# Altium integrated library Analog Devices Data Converters Digital-to-Analog Converters.IntLib: 2231 symbols (part 30 of 181)
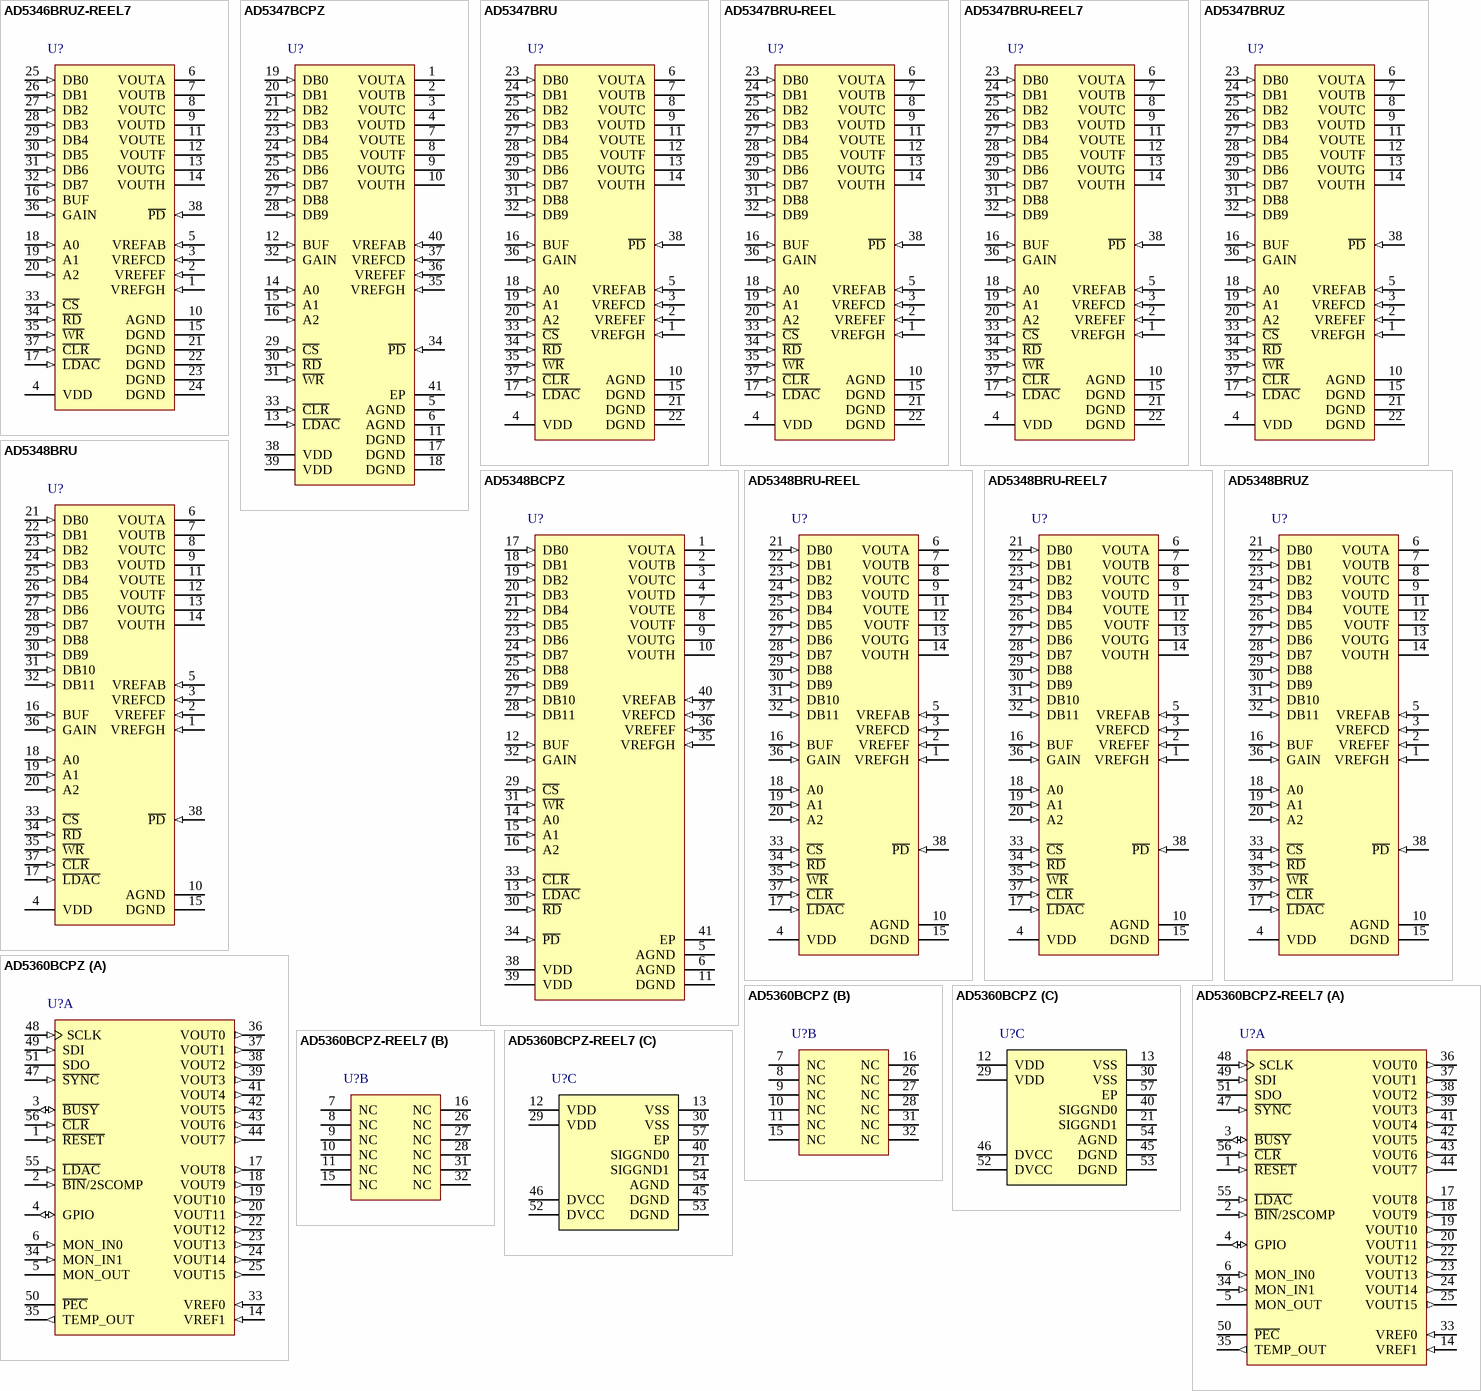
[diagram p143: symbols AD5346BRUZ-REEL7 to AD5360BCPZ-REEL7]

## AD5346BRUZ-REEL7
designator U?
Octal 8-Bit Voltage Output Digital-to-Analog Converter, 2.5 to 5.5 V, -40 to +105 degC, RU-38, Pb-Free, Reel; Generic Part Number: AD5346; Manufacturer: Analog Devices; PartNumber: AD5346BRUZ-REEL7; # DAC Outputs: 8; Max V+: 5.5V; Op Pwr Diss: 8.3mW; Settling Time: 6µs; Single Supply: Yes; DatasheetVersion: Rev.0; PackageVersion: Mar-2003; PackageReference: RU-38; PackageDescription: 38-Lead Thin Shrink Small Outline Package [TSSOP]; Supplier 1: Mouser; Supplier Part Number 1: N/A; Packing: Reel; Resolution (Bits): 8; RoHS: Y; Mounting Technology: Surface Mount; Code_JEDEC: MS-153BD-1; ComponentLink1Description: Manufacturer URL; ComponentLink1URL: http://www.analog.com/en/index.html; ComponentLink2Description: Datasheet; ComponentLink2URL: http://www.analog.com/static/imported-files/data_sheets/AD5346_5347_5348.pdf; ComponentLink3Description: Package Specification; ComponentLink3URL: http://www.analog.com/static/imported-files/packages/36817415413609854197792024125RU38.pdf; ComponentLink4Description: Product URL; ComponentLink4URL: http://www.analog.com/en/digital-to-analog-converters/da-converters/ad5346/products/product.html
footprint RU-38_N (TSSOP, 38-Leads, Body 9.7x4.4mm, Pitch 0.5mm, IPC Medium Density)
footprint RU-38_L (TSSOP, 38-Leads, Body 9.7x4.4mm, Pitch 0.5mm, IPC High Density)
footprint RU-38_M (TSSOP, 38-Leads, Body 9.7x4.4mm, Pitch 0.5mm, IPC Low Density)
pins: 1 VREFGH (in) "Reference Input for DACs G and H.", 2 VREFEF (in) "Reference Input for DACs E and F.", 3 VREFCD (in) "Reference Input for DACs C and D.", 4 VDD (power) "Power Supply Pin(s). This part can operate from 2.5 V to 5.5 V, and the supply should be decoupled with a 10 uF capacitor in parallel with a 0.1 uF capacitor to GND.", 5 VREFAB (in) "Reference Input for DACs A and B.", 6 VOUTA (hiz) "Output of DAC A. Buffered output with rail-to-rail operation.", 7 VOUTB (hiz) "Output of DAC B. Buffered output with rail-to-rail operation.", 8 VOUTC (hiz) "Output of DAC C. Buffered output with rail-to-rail operation.", 9 VOUTD (hiz) "Output of DAC D. Buffered output with rail-to-rail operation.", 10 AGND (power) "Analog Ground. Ground reference for analog circuitry.", 11 VOUTE (hiz) "Output of DAC E. Buffered output with rail-to-rail operation.", 12 VOUTF (hiz) "Output of DAC F. Buffered output with rail-to-rail operation.", 13 VOUTG (hiz) "Output of DAC G. Buffered output with rail-to-rail operation.", 14 VOUTH (hiz) "Output of DAC H. Buffered output with rail-to-rail operation.", 15 DGND (power) "Digital Ground. Ground reference for digital circuitry.", 16 BUF (in) "Buffer Control Pin. Controls whether the reference input to the DAC is buffered or unbuffered.", 17 ~{LDAC} (in) "Active Low Control Input. Updates the DAC registers with the contents of the input registers, which allows all DAC outputs to be simultaneously updated.", 18 A0 (in) "LSB Address Pin. Selects which DAC is to be written to.", 19 A1 (in) "Address Pin. Selects which DAC is to be written to.", 20 A2 (in) "MSB Address Pin. Selects which DAC is to be written to.", 21 DGND (power) "Digital Ground. Ground reference for digital circuitry.", 22 DGND (power) "Digital Ground. Ground reference for digital circuitry.", 23 DGND (power) "Digital Ground. Ground reference for digital circuitry.", 24 DGND (power) "Digital Ground. Ground reference for digital circuitry.", 25 DB0 (in) "Eight Parallel Data Inputs.", 26 DB1 (in) "Eight Parallel Data Inputs.", 27 DB2 (in) "Eight Parallel Data Inputs.", 28 DB3 (in) "Eight Parallel Data Inputs.", 29 DB4 (in) "Eight Parallel Data Inputs.", 30 DB5 (in) "Eight Parallel Data Inputs.", 31 DB6 (in) "Eight Parallel Data Inputs.", 32 DB7 (in) "Eight Parallel Data Inputs. DB7 is the MSB of these eight bits.", 33 ~{CS} (in) "Active Low Chip Select Input. Used in conjunction with W\R\ to write data to the parallel interface, or with R\D\ to read back data from a DAC.", 34 ~{RD} (in) "Active Low Read Input. Used in conjunction with C\S\ to read data back from the internal DACs.", 35 ~{WR} (in) "Active Low Write Input. Used in conjunction with C\S\ to write data to the parallel interface.", 36 GAIN (in) "Gain Control Pin. Controls whether the output range from the DAC is 0 V to VREF or 0 V to 2 x VREF.", 37 ~{CLR} (in) "Asynchronous Active Low Control Input. Clears all input registers and DAC registers to zeros.", 38 ~{PD} (in) "Power-Down Pin. This active low control pin puts all DACs into power-down mode."

## AD5347BCPZ
designator U?
Octal 10-Bit Voltage Output Digital-to-Analog Converter, 2.5 to 5.5 V, -40 to +105 degC, CP-40-1, Pb-Free, Tray; Generic Part Number: AD5347; Manufacturer: Analog Devices; PartNumber: AD5347BCPZ; # DAC Outputs: 8; Max V+: 5.5V; Op Pwr Diss: 8.3mW; Resolution (Bits): 10; Settling Time: 7µs; Single Supply: Yes; DatasheetVersion: Rev.0; PackageVersion: Oct-2006; PackageReference: CP-40-1; PackageDescription: 40-Pin Lead Frame Chip Scale Package [LFCSP_VQ] Very Thin Quad; Supplier 1: Digi-Key; Supplier Part Number 1: AD5347BCPZ-ND; Supplier 2: Mouser; Supplier Part Number 2: 584-AD5347BCPZ; Packing: Tray; RoHS: Y; Mounting Technology: Surface Mount; Code_JEDEC: MO-220-VJJD-2; ComponentLink1Description: Manufacturer URL; ComponentLink1URL: http://www.analog.com/en/index.html; ComponentLink2Description: Datasheet; ComponentLink2URL: http://www.analog.com/static/imported-files/data_sheets/AD5346_5347_5348.pdf; ComponentLink3Description: Package Specification; ComponentLink3URL: http://www.analog.com/static/imported-files/packages/PKG_PDF/LFCSP(CP)/CP_40_1.pdf; ComponentLink4Description: Product URL; ComponentLink4URL: http://www.analog.com/en/digital-to-analog-converters/da-converters/ad5347/products/product.html
footprint CP-40-1_N (QFN, 40-Leads, Body 6x6mm, Pitch 0.5mm, Thermal Pad 4.3x4.3mm, IPC Medium Density)
footprint CP-40-1_L (QFN, 40-Leads, Body 6x6mm, Pitch 0.5mm, Thermal Pad 4.3x4.3mm, IPC High Density)
footprint CP-40-1_M (QFN, 40-Leads, Body 6x6mm, Pitch 0.5mm, Thermal Pad 4.3x4.3mm, IPC Low Density)
pins: 1 VOUTA (hiz) "Output of DAC A. Buffered output with rail-to-rail operation.", 2 VOUTB (hiz) "Output of DAC B. Buffered output with rail-to-rail operation.", 3 VOUTC (hiz) "Output of DAC C. Buffered output with rail-to-rail operation.", 4 VOUTD (hiz) "Output of DAC D. Buffered output with rail-to-rail operation.", 5 AGND (power) "Analog Ground. Ground reference for analog circuitry.", 6 AGND (power) "Analog Ground. Ground reference for analog circuitry.", 7 VOUTE (hiz) "Output of DAC E. Buffered output with rail-to-rail operation.", 8 VOUTF (hiz) "Output of DAC F. Buffered output with rail-to-rail operation.", 9 VOUTG (hiz) "Output of DAC G. Buffered output with rail-to-rail operation.", 10 VOUTH (hiz) "Output of DAC H. Buffered output with rail-to-rail operation.", 11 DGND (power) "Digital Ground. Ground reference for digital circuitry.", 12 BUF (in) "Buffer Control Pin. Controls whether the reference input to the DAC is buffered or unbuffered.", 13 ~{LDAC} (in) "Active Low Control Input. Updates the DAC registers with the contents of the input registers, which allows all DAC outputs to be simultaneously updated.", 14 A0 (in) "LSB Address Pin. Selects which DAC is to be written to.", 15 A1 (in) "Address Pin. Selects which DAC is to be written to.", 16 A2 (in) "MSB Address Pin. Selects which DAC is to be written to.", 17 DGND (power) "Digital Ground. Ground reference for digital circuitry.", 18 DGND (power) "Digital Ground. Ground reference for digital circuitry.", 19 DB0 (in) "Parallel Data Input.", 20 DB1 (in) "Parallel Data Input.", 21 DB2 (in) "Parallel Data Input.", 22 DB3 (in) "Parallel Data Input.", 23 DB4 (in) "Parallel Data Input.", 24 DB5 (in) "Parallel Data Input.", 25 DB6 (in) "Parallel Data Input.", 26 DB7 (in) "Parallel Data Input.", 27 DB8 (in) "Parallel Data Input.", 28 DB9 (in) "Parallel Data Inputs. DB9 Is the MSB of these ten bits.", 29 ~{CS} (in) "Active Low Chip Select Input. Used in conjunction with W\R\ to write data to the parallel interface, or with R\D\ to read back data from a DAC.", 30 ~{RD} (in) "Active Low Read Input. Used in conjunction with C\S\ to read data back from the internal DACs.", 31 ~{WR} (in) "Active Low Write Input. Used in conjunction with C\S\ to write data to the parallel interface.", 32 GAIN (in) "Gain Control Pin. Controls whether the output range from the DAC is 0 V to VREF or 0 V to 2 x VREF.", 33 ~{CLR} (in) "Asynchronous Active Low Control Input. Clears all input registers and DAC registers to zeros.", 34 ~{PD} (in) "Power-Down Pin. This active low control pin puts all DACs into power-down mode.", 35 VREFGH (in) "Reference Input for DACs G and H.", 36 VREFEF (in) "Reference Input for DACs E and F.", 37 VREFCD (in) "Reference Input for DACs C and D.", 38 VDD (power) "Power Supply Pin. This part can operate from 2.5 V to 5.5 V, and the supply should be decoupled with a 10 uF capacitor in parallel with a 0.1 uF capacitor to GND. Both VDD pins on the LFCSP package must be at the same (See Datasheet)", 39 VDD (power) "Power Supply Pin. This part can operate from 2.5 V to 5.5 V, and the supply should be decoupled with a 10 uF capacitor in parallel with a 0.1 uF capacitor to GND. Both VDD pins on the LFCSP package must be at the same (See Datasheet)", 40 VREFAB (in) "Reference Input for DACs A and B.", 41 EP "Exposed Pad"

## AD5347BRU
designator U?
Octal 10-Bit Voltage Output Digital-to-Analog Converter, 2.5 to 5.5 V, -40 to +105 degC, RU-38, Tube; Generic Part Number: AD5347; Manufacturer: Analog Devices; PartNumber: AD5347BRU; # DAC Outputs: 8; Max V+: 5.5V; Op Pwr Diss: 8.3mW; Resolution (Bits): 10; Settling Time: 7µs; Single Supply: Yes; DatasheetVersion: Rev.0; PackageVersion: Mar-2003; PackageReference: RU-38; PackageDescription: 38-Lead Thin Shrink Small Outline Package [TSSOP]; Supplier 1: Digi-Key; Supplier Part Number 1: AD5347BRU-ND; Supplier 2: Mouser; Supplier Part Number 2: 584-AD5347BRU; Packing: Tube; RoHS: N; Mounting Technology: Surface Mount; Code_JEDEC: MS-153BD-1; ComponentLink1Description: Manufacturer URL; ComponentLink1URL: http://www.analog.com/en/index.html; ComponentLink2Description: Datasheet; ComponentLink2URL: http://www.analog.com/static/imported-files/data_sheets/AD5346_5347_5348.pdf; ComponentLink3Description: Package Specification; ComponentLink3URL: http://www.analog.com/static/imported-files/packages/36817415413609854197792024125RU38.pdf; ComponentLink4Description: Product URL; ComponentLink4URL: http://www.analog.com/en/digital-to-analog-converters/da-converters/ad5347/products/product.html
footprint RU-38_N (TSSOP, 38-Leads, Body 9.7x4.4mm, Pitch 0.5mm, IPC Medium Density)
footprint RU-38_L (TSSOP, 38-Leads, Body 9.7x4.4mm, Pitch 0.5mm, IPC High Density)
footprint RU-38_M (TSSOP, 38-Leads, Body 9.7x4.4mm, Pitch 0.5mm, IPC Low Density)
pins: 1 VREFGH (in) "Reference Input for DACs G and H.", 2 VREFEF (in) "Reference Input for DACs E and F.", 3 VREFCD (in) "Reference Input for DACs C and D.", 4 VDD (power) "Power Supply Pin(s). This part can operate from 2.5 V to 5.5 V, and the supply should be decoupled with a 10 uF capacitor in parallel with a 0.1 uF capacitor to GND. Both VDD pins on the LFCSP package must be at the same (See Datasheet)", 5 VREFAB (in) "Reference Input for DACs A and B.", 6 VOUTA (hiz) "Output of DAC A. Buffered output with rail-to-rail operation.", 7 VOUTB (hiz) "Output of DAC B. Buffered output with rail-to-rail operation.", 8 VOUTC (hiz) "Output of DAC C. Buffered output with rail-to-rail operation.", 9 VOUTD (hiz) "Output of DAC D. Buffered output with rail-to-rail operation.", 10 AGND (power) "Analog Ground. Ground reference for analog circuitry.", 11 VOUTE (hiz) "Output of DAC E. Buffered output with rail-to-rail operation.", 12 VOUTF (hiz) "Output of DAC F. Buffered output with rail-to-rail operation.", 13 VOUTG (hiz) "Output of DAC G. Buffered output with rail-to-rail operation.", 14 VOUTH (hiz) "Output of DAC H. Buffered output with rail-to-rail operation.", 15 DGND (power) "Digital Ground. Ground reference for digital circuitry.", 16 BUF (in) "Buffer Control Pin. Controls whether the reference input to the DAC is buffered or unbuffered.", 17 ~{LDAC} (in) "Active Low Control Input. Updates the DAC registers with the contents of the input registers, which allows all DAC outputs to be simultaneously updated.", 18 A0 (in) "LSB Address Pin. Selects which DAC is to be written to.", 19 A1 (in) "Address Pin. Selects which DAC is to be written to.", 20 A2 (in) "MSB Address Pin. Selects which DAC is to be written to.", 21 DGND (power) "Digital Ground. Ground reference for digital circuitry.", 22 DGND (power) "Digital Ground. Ground reference for digital circuitry.", 23 DB0 (in) "Parallel Data Input.", 24 DB1 (in) "Parallel Data Input.", 25 DB2 (in) "Parallel Data Input.", 26 DB3 (in) "Parallel Data Input.", 27 DB4 (in) "Parallel Data Input.", 28 DB5 (in) "Parallel Data Input.", 29 DB6 (in) "Parallel Data Input.", 30 DB7 (in) "Parallel Data Input.", 31 DB8 (in) "Parallel Data Input.", 32 DB9 (in) "Parallel Data Input. DB9 Is the MSB of these ten bits.", 33 ~{CS} (in) "Active Low Chip Select Input. Used in conjunction with W\R\ to write data to the parallel interface, or with R\D\ to read back data from a DAC.", 34 ~{RD} (in) "Active Low Read Input. Used in conjunction with C\S\to read data back from the internal DACs.", 35 ~{WR} (in) "Active Low Write Input. Used in conjunction with C\S\ to write data to the parallel interface.", 36 GAIN (in) "Gain Control Pin. Controls whether the output range from the DAC is 0 V to VREF or 0 V to 2 x VREF.", 37 ~{CLR} (in) "Asynchronous Active Low Control Input. Clears all input registers and DAC registers to zeros.", 38 ~{PD} (in) "Power-Down Pin. This active low control pin puts all DACs into power-down mode."

## AD5347BRU-REEL
designator U?
Octal 10-Bit Voltage Output Digital-to-Analog Converter, 2.5 to 5.5 V, -40 to +105 degC, RU-38, Reel; Generic Part Number: AD5347; Manufacturer: Analog Devices; PartNumber: AD5347BRU-REEL; # DAC Outputs: 8; Max V+: 5.5V; Op Pwr Diss: 8.3mW; Resolution (Bits): 10; Settling Time: 7µs; Single Supply: Yes; DatasheetVersion: Rev.0; PackageVersion: Mar-2003; PackageReference: RU-38; PackageDescription: 38-Lead Thin Shrink Small Outline Package [TSSOP]; Supplier 1: Digi-Key; Supplier Part Number 1: AD5347BRU-REEL-ND; Supplier 2: Mouser; Supplier Part Number 2: 584-AD5347BRU-R; Packing: Reel; RoHS: N; Mounting Technology: Surface Mount; Code_JEDEC: MS-153BD-1; ComponentLink1Description: Manufacturer URL; ComponentLink1URL: http://www.analog.com/en/index.html; ComponentLink2Description: Datasheet; ComponentLink2URL: http://www.analog.com/static/imported-files/data_sheets/AD5346_5347_5348.pdf; ComponentLink3Description: Package Specification; ComponentLink3URL: http://www.analog.com/static/imported-files/packages/36817415413609854197792024125RU38.pdf; ComponentLink4Description: Product URL; ComponentLink4URL: http://www.analog.com/en/digital-to-analog-converters/da-converters/ad5347/products/product.html
footprint RU-38_N (TSSOP, 38-Leads, Body 9.7x4.4mm, Pitch 0.5mm, IPC Medium Density)
footprint RU-38_L (TSSOP, 38-Leads, Body 9.7x4.4mm, Pitch 0.5mm, IPC High Density)
footprint RU-38_M (TSSOP, 38-Leads, Body 9.7x4.4mm, Pitch 0.5mm, IPC Low Density)
pins: 1 VREFGH (in) "Reference Input for DACs G and H.", 2 VREFEF (in) "Reference Input for DACs E and F.", 3 VREFCD (in) "Reference Input for DACs C and D.", 4 VDD (power) "Power Supply Pin(s). This part can operate from 2.5 V to 5.5 V, and the supply should be decoupled with a 10 uF capacitor in parallel with a 0.1 uF capacitor to GND. Both VDD pins on the LFCSP package must be at the same (See Datasheet)", 5 VREFAB (in) "Reference Input for DACs A and B.", 6 VOUTA (hiz) "Output of DAC A. Buffered output with rail-to-rail operation.", 7 VOUTB (hiz) "Output of DAC B. Buffered output with rail-to-rail operation.", 8 VOUTC (hiz) "Output of DAC C. Buffered output with rail-to-rail operation.", 9 VOUTD (hiz) "Output of DAC D. Buffered output with rail-to-rail operation.", 10 AGND (power) "Analog Ground. Ground reference for analog circuitry.", 11 VOUTE (hiz) "Output of DAC E. Buffered output with rail-to-rail operation.", 12 VOUTF (hiz) "Output of DAC F. Buffered output with rail-to-rail operation.", 13 VOUTG (hiz) "Output of DAC G. Buffered output with rail-to-rail operation.", 14 VOUTH (hiz) "Output of DAC H. Buffered output with rail-to-rail operation.", 15 DGND (power) "Digital Ground. Ground reference for digital circuitry.", 16 BUF (in) "Buffer Control Pin. Controls whether the reference input to the DAC is buffered or unbuffered.", 17 ~{LDAC} (in) "Active Low Control Input. Updates the DAC registers with the contents of the input registers, which allows all DAC outputs to be simultaneously updated.", 18 A0 (in) "LSB Address Pin. Selects which DAC is to be written to.", 19 A1 (in) "Address Pin. Selects which DAC is to be written to.", 20 A2 (in) "MSB Address Pin. Selects which DAC is to be written to.", 21 DGND (power) "Digital Ground. Ground reference for digital circuitry.", 22 DGND (power) "Digital Ground. Ground reference for digital circuitry.", 23 DB0 (in) "Parallel Data Input.", 24 DB1 (in) "Parallel Data Input.", 25 DB2 (in) "Parallel Data Input.", 26 DB3 (in) "Parallel Data Input.", 27 DB4 (in) "Parallel Data Input.", 28 DB5 (in) "Parallel Data Input.", 29 DB6 (in) "Parallel Data Input.", 30 DB7 (in) "Parallel Data Input.", 31 DB8 (in) "Parallel Data Input.", 32 DB9 (in) "Parallel Data Input. DB9 Is the MSB of these ten bits.", 33 ~{CS} (in) "Active Low Chip Select Input. Used in conjunction with W\R\ to write data to the parallel interface, or with R\D\ to read back data from a DAC.", 34 ~{RD} (in) "Active Low Read Input. Used in conjunction with C\S\to read data back from the internal DACs.", 35 ~{WR} (in) "Active Low Write Input. Used in conjunction with C\S\ to write data to the parallel interface.", 36 GAIN (in) "Gain Control Pin. Controls whether the output range from the DAC is 0 V to VREF or 0 V to 2 x VREF.", 37 ~{CLR} (in) "Asynchronous Active Low Control Input. Clears all input registers and DAC registers to zeros.", 38 ~{PD} (in) "Power-Down Pin. This active low control pin puts all DACs into power-down mode."

## AD5347BRU-REEL7
designator U?
Octal 10-Bit Voltage Output Digital-to-Analog Converter, 2.5 to 5.5 V, -40 to +105 degC, RU-38, Reel; Generic Part Number: AD5347; Manufacturer: Analog Devices; PartNumber: AD5347BRU-REEL7; # DAC Outputs: 8; Max V+: 5.5V; Op Pwr Diss: 8.3mW; Resolution (Bits): 10; Settling Time: 7µs; Single Supply: Yes; DatasheetVersion: Rev.0; PackageVersion: Mar-2003; PackageReference: RU-38; PackageDescription: 38-Lead Thin Shrink Small Outline Package [TSSOP]; Supplier 1: Digi-Key; Supplier Part Number 1: AD5347BRU-REEL7-ND; Supplier 2: Mouser; Supplier Part Number 2: 584-AD5347BRU-R7; Packing: Reel; RoHS: N; Mounting Technology: Surface Mount; Code_JEDEC: MS-153BD-1; ComponentLink1Description: Manufacturer URL; ComponentLink1URL: http://www.analog.com/en/index.html; ComponentLink2Description: Datasheet; ComponentLink2URL: http://www.analog.com/static/imported-files/data_sheets/AD5346_5347_5348.pdf; ComponentLink3Description: Package Specification; ComponentLink3URL: http://www.analog.com/static/imported-files/packages/36817415413609854197792024125RU38.pdf; ComponentLink4Description: Product URL; ComponentLink4URL: http://www.analog.com/en/digital-to-analog-converters/da-converters/ad5347/products/product.html
footprint RU-38_N (TSSOP, 38-Leads, Body 9.7x4.4mm, Pitch 0.5mm, IPC Medium Density)
footprint RU-38_L (TSSOP, 38-Leads, Body 9.7x4.4mm, Pitch 0.5mm, IPC High Density)
footprint RU-38_M (TSSOP, 38-Leads, Body 9.7x4.4mm, Pitch 0.5mm, IPC Low Density)
pins: 1 VREFGH (in) "Reference Input for DACs G and H.", 2 VREFEF (in) "Reference Input for DACs E and F.", 3 VREFCD (in) "Reference Input for DACs C and D.", 4 VDD (power) "Power Supply Pin(s). This part can operate from 2.5 V to 5.5 V, and the supply should be decoupled with a 10 uF capacitor in parallel with a 0.1 uF capacitor to GND. Both VDD pins on the LFCSP package must be at the same (See Datasheet)", 5 VREFAB (in) "Reference Input for DACs A and B.", 6 VOUTA (hiz) "Output of DAC A. Buffered output with rail-to-rail operation.", 7 VOUTB (hiz) "Output of DAC B. Buffered output with rail-to-rail operation.", 8 VOUTC (hiz) "Output of DAC C. Buffered output with rail-to-rail operation.", 9 VOUTD (hiz) "Output of DAC D. Buffered output with rail-to-rail operation.", 10 AGND (power) "Analog Ground. Ground reference for analog circuitry.", 11 VOUTE (hiz) "Output of DAC E. Buffered output with rail-to-rail operation.", 12 VOUTF (hiz) "Output of DAC F. Buffered output with rail-to-rail operation.", 13 VOUTG (hiz) "Output of DAC G. Buffered output with rail-to-rail operation.", 14 VOUTH (hiz) "Output of DAC H. Buffered output with rail-to-rail operation.", 15 DGND (power) "Digital Ground. Ground reference for digital circuitry.", 16 BUF (in) "Buffer Control Pin. Controls whether the reference input to the DAC is buffered or unbuffered.", 17 ~{LDAC} (in) "Active Low Control Input. Updates the DAC registers with the contents of the input registers, which allows all DAC outputs to be simultaneously updated.", 18 A0 (in) "LSB Address Pin. Selects which DAC is to be written to.", 19 A1 (in) "Address Pin. Selects which DAC is to be written to.", 20 A2 (in) "MSB Address Pin. Selects which DAC is to be written to.", 21 DGND (power) "Digital Ground. Ground reference for digital circuitry.", 22 DGND (power) "Digital Ground. Ground reference for digital circuitry.", 23 DB0 (in) "Parallel Data Input.", 24 DB1 (in) "Parallel Data Input.", 25 DB2 (in) "Parallel Data Input.", 26 DB3 (in) "Parallel Data Input.", 27 DB4 (in) "Parallel Data Input.", 28 DB5 (in) "Parallel Data Input.", 29 DB6 (in) "Parallel Data Input.", 30 DB7 (in) "Parallel Data Input.", 31 DB8 (in) "Parallel Data Input.", 32 DB9 (in) "Parallel Data Input. DB9 Is the MSB of these ten bits.", 33 ~{CS} (in) "Active Low Chip Select Input. Used in conjunction with W\R\ to write data to the parallel interface, or with R\D\ to read back data from a DAC.", 34 ~{RD} (in) "Active Low Read Input. Used in conjunction with C\S\to read data back from the internal DACs.", 35 ~{WR} (in) "Active Low Write Input. Used in conjunction with C\S\ to write data to the parallel interface.", 36 GAIN (in) "Gain Control Pin. Controls whether the output range from the DAC is 0 V to VREF or 0 V to 2 x VREF.", 37 ~{CLR} (in) "Asynchronous Active Low Control Input. Clears all input registers and DAC registers to zeros.", 38 ~{PD} (in) "Power-Down Pin. This active low control pin puts all DACs into power-down mode."

## AD5347BRUZ
designator U?
Octal 10-Bit Voltage Output Digital-to-Analog Converter, 2.5 to 5.5 V, -40 to +105 degC, RU-38, Pb-Free, Tube; Generic Part Number: AD5347; Manufacturer: Analog Devices; PartNumber: AD5347BRUZ; # DAC Outputs: 8; Max V+: 5.5V; Op Pwr Diss: 8.3mW; Resolution (Bits): 10; Settling Time: 7µs; Single Supply: Yes; DatasheetVersion: Rev.0; PackageVersion: Mar-2003; PackageReference: RU-38; PackageDescription: 38-Lead Thin Shrink Small Outline Package [TSSOP]; Supplier 1: Digi-Key; Supplier Part Number 1: AD5347BRUZ-ND; Supplier 2: Farnell; Supplier Part Number 2: 1581917; Supplier 3: Newark; Supplier Part Number 3: 59K4010; Supplier 4: Mouser; Supplier Part Number 4: 584-AD5347BRUZ; Packing: Tube; RoHS: Y; Mounting Technology: Surface Mount; Code_JEDEC: MS-153BD-1; ComponentLink1Description: Manufacturer URL; ComponentLink1URL: http://www.analog.com/en/index.html; ComponentLink2Description: Datasheet; ComponentLink2URL: http://www.analog.com/static/imported-files/data_sheets/AD5346_5347_5348.pdf; ComponentLink3Description: Package Specification; ComponentLink3URL: http://www.analog.com/static/imported-files/packages/36817415413609854197792024125RU38.pdf; ComponentLink4Description: Product URL; ComponentLink4URL: http://www.analog.com/en/digital-to-analog-converters/da-converters/ad5347/products/product.html
footprint RU-38_N (TSSOP, 38-Leads, Body 9.7x4.4mm, Pitch 0.5mm, IPC Medium Density)
footprint RU-38_L (TSSOP, 38-Leads, Body 9.7x4.4mm, Pitch 0.5mm, IPC High Density)
footprint RU-38_M (TSSOP, 38-Leads, Body 9.7x4.4mm, Pitch 0.5mm, IPC Low Density)
pins: 1 VREFGH (in) "Reference Input for DACs G and H.", 2 VREFEF (in) "Reference Input for DACs E and F.", 3 VREFCD (in) "Reference Input for DACs C and D.", 4 VDD (power) "Power Supply Pin(s). This part can operate from 2.5 V to 5.5 V, and the supply should be decoupled with a 10 uF capacitor in parallel with a 0.1 uF capacitor to GND. Both VDD pins on the LFCSP package must be at the same (See Datasheet)", 5 VREFAB (in) "Reference Input for DACs A and B.", 6 VOUTA (hiz) "Output of DAC A. Buffered output with rail-to-rail operation.", 7 VOUTB (hiz) "Output of DAC B. Buffered output with rail-to-rail operation.", 8 VOUTC (hiz) "Output of DAC C. Buffered output with rail-to-rail operation.", 9 VOUTD (hiz) "Output of DAC D. Buffered output with rail-to-rail operation.", 10 AGND (power) "Analog Ground. Ground reference for analog circuitry.", 11 VOUTE (hiz) "Output of DAC E. Buffered output with rail-to-rail operation.", 12 VOUTF (hiz) "Output of DAC F. Buffered output with rail-to-rail operation.", 13 VOUTG (hiz) "Output of DAC G. Buffered output with rail-to-rail operation.", 14 VOUTH (hiz) "Output of DAC H. Buffered output with rail-to-rail operation.", 15 DGND (power) "Digital Ground. Ground reference for digital circuitry.", 16 BUF (in) "Buffer Control Pin. Controls whether the reference input to the DAC is buffered or unbuffered.", 17 ~{LDAC} (in) "Active Low Control Input. Updates the DAC registers with the contents of the input registers, which allows all DAC outputs to be simultaneously updated.", 18 A0 (in) "LSB Address Pin. Selects which DAC is to be written to.", 19 A1 (in) "Address Pin. Selects which DAC is to be written to.", 20 A2 (in) "MSB Address Pin. Selects which DAC is to be written to.", 21 DGND (power) "Digital Ground. Ground reference for digital circuitry.", 22 DGND (power) "Digital Ground. Ground reference for digital circuitry.", 23 DB0 (in) "Parallel Data Input.", 24 DB1 (in) "Parallel Data Input.", 25 DB2 (in) "Parallel Data Input.", 26 DB3 (in) "Parallel Data Input.", 27 DB4 (in) "Parallel Data Input.", 28 DB5 (in) "Parallel Data Input.", 29 DB6 (in) "Parallel Data Input.", 30 DB7 (in) "Parallel Data Input.", 31 DB8 (in) "Parallel Data Input.", 32 DB9 (in) "Parallel Data Input. DB9 Is the MSB of these ten bits.", 33 ~{CS} (in) "Active Low Chip Select Input. Used in conjunction with W\R\ to write data to the parallel interface, or with R\D\ to read back data from a DAC.", 34 ~{RD} (in) "Active Low Read Input. Used in conjunction with C\S\to read data back from the internal DACs.", 35 ~{WR} (in) "Active Low Write Input. Used in conjunction with C\S\ to write data to the parallel interface.", 36 GAIN (in) "Gain Control Pin. Controls whether the output range from the DAC is 0 V to VREF or 0 V to 2 x VREF.", 37 ~{CLR} (in) "Asynchronous Active Low Control Input. Clears all input registers and DAC registers to zeros.", 38 ~{PD} (in) "Power-Down Pin. This active low control pin puts all DACs into power-down mode."

## AD5348BCPZ
designator U?
Octal 12-Bit Voltage Output Digital-to-Analog Converter, 2.5 to 5.5 V, -40 to +105 degC, CP-40-1, Pb-Free, Tray; Generic Part Number: AD5348; Manufacturer: Analog Devices; PartNumber: AD5348BCPZ; # DAC Outputs: 8; Max V+: 5.5V; Op Pwr Diss: 8.3mW; Resolution (Bits): 12; Settling Time: 8µs; Single Supply: Yes; DatasheetVersion: Rev.0; PackageVersion: Oct-2006; PackageReference: CP-40-1; PackageDescription: 40-Pin Lead Frame Chip Scale Package [LFCSP_VQ] Very Thin Quad; Supplier 1: Digi-Key; Supplier Part Number 1: AD5348BCPZ-ND; Supplier 2: Newark; Supplier Part Number 2: 59K4014; Supplier 3: Mouser; Supplier Part Number 3: 584-AD5348BCPZ; Packing: Tray; RoHS: Y; Mounting Technology: Surface Mount; Code_JEDEC: MO-220-VJJD-2; ComponentLink1Description: Manufacturer URL; ComponentLink1URL: http://www.analog.com/en/index.html; ComponentLink2Description: Datasheet; ComponentLink2URL: http://www.analog.com/static/imported-files/data_sheets/AD5346_5347_5348.pdf; ComponentLink3Description: Package Specification; ComponentLink3URL: http://www.analog.com/static/imported-files/packages/PKG_PDF/LFCSP(CP)/CP_40_1.pdf; ComponentLink4Description: Product URL; ComponentLink4URL: http://www.analog.com/en/digital-to-analog-converters/da-converters/ad5348/products/product.html
footprint CP-40-1_N (QFN, 40-Leads, Body 6x6mm, Pitch 0.5mm, Thermal Pad 4.3x4.3mm, IPC Medium Density)
footprint CP-40-1_L (QFN, 40-Leads, Body 6x6mm, Pitch 0.5mm, Thermal Pad 4.3x4.3mm, IPC High Density)
footprint CP-40-1_M (QFN, 40-Leads, Body 6x6mm, Pitch 0.5mm, Thermal Pad 4.3x4.3mm, IPC Low Density)
pins: 1 VOUTA (hiz) "Output of DAC A. Buffered output with rail-to-rail operation.", 2 VOUTB (hiz) "Output of DAC B. Buffered output with rail-to-rail operation.", 3 VOUTC (hiz) "Output of DAC C. Buffered output with rail-to-rail operation.", 4 VOUTD (hiz) "Output of DAC D. Buffered output with rail-to-rail operation.", 5 AGND (power) "Analog Ground. Ground reference for analog circuitry.", 6 AGND (power) "Analog Ground. Ground reference for analog circuitry.", 7 VOUTE (hiz) "Output of DAC E. Buffered output with rail-to-rail operation.", 8 VOUTF (hiz) "Output of DAC F. Buffered output with rail-to-rail operation.", 9 VOUTG (hiz) "Output of DAC G. Buffered output with rail-to-rail operation.", 10 VOUTH (hiz) "Output of DAC H. Buffered output with rail-to-rail operation.", 11 DGND (power) "Digital Ground. Ground reference for digital circuitry.", 12 BUF (in) "Buffer Control Pin. Controls whether the reference input to the DAC is buffered or unbuffered.", 13 ~{LDAC} (in) "Active Low Control Input. Updates the DAC registers with the contents of the input registers, which allows all DAC outputs to be simultaneously updated.", 14 A0 (in) "LSB Address Pin. Selects which DAC is to be written to.", 15 A1 (in) "Address Pin. Selects which DAC is to be written to.", 16 A2 (in) "MSB Address Pin. Selects which DAC is to be written to.", 17 DB0 (in) "Twelve Parallel Data Input.", 18 DB1 (in) "Twelve Parallel Data Input.", 19 DB2 (in) "Twelve Parallel Data Input.", 20 DB3 (in) "Twelve Parallel Data Input.", 21 DB4 (in) "Twelve Parallel Data Input.", 22 DB5 (in) "Twelve Parallel Data Input.", 23 DB6 (in) "Twelve Parallel Data Input.", 24 DB7 (in) "Twelve Parallel Data Input.", 25 DB8 (in) "Twelve Parallel Data Input.", 26 DB9 (in) "Twelve Parallel Data Input.", 27 DB10 (in) "Twelve Parallel Data Input.", 28 DB11 (in) "Twelve Parallel Data Input. DB11 is the MSB of these 12 bits.", 29 ~{CS} (in) "Active Low Chip Select Input. Used in conjunction with W\R\ to write data to the parallel interface, or with R\D\ to read back data from a DAC.", 30 ~{RD} (in) "Active Low Read Input. Used in conjunction with C\S\ to read data back from the internal DACs.", 31 ~{WR} (in) "Active Low Write Input. Used in conjunction with C\S\ to write data to the parallel interface.", 32 GAIN (in) "Gain Control Pin. Controls whether the output range from the DAC is 0 V to VREF or 0 V to 2 x VREF.", 33 ~{CLR} (in) "Asynchronous Active Low Control Input. Clears all input registers and DAC registers to zeros.", 34 ~{PD} (in) "Power-Down Pin. This active low control pin puts all DACs into power-down mode.", 35 VREFGH (in) "Reference Input for DACs G and H.", 36 VREFEF (in) "Reference Input for DACs E and F.", 37 VREFCD (in) "Reference Input for DACs C and D.", 38 VDD (power) "Power Supply Pin(s). This part can operate from 2.5 V to 5.5 V, and the supply should be decoupled with a 10 uF capacitor in parallel with a 0.1 uF capacitor to GND. Both VDD pins on the LFCSP package must be at the same (See Datasheet)", 39 VDD (power) "Power Supply Pin(s). This part can operate from 2.5 V to 5.5 V, and the supply should be decoupled with a 10 uF capacitor in parallel with a 0.1 uF capacitor to GND. Both VDD pins on the LFCSP package must be at the same (See Datasheet)", 40 VREFAB (in) "Reference Input for DACs A and B.", 41 EP "Exposed Pad."

## AD5348BRU
designator U?
Octal 12-Bit Voltage Output Digital-to-Analog Converter, 2.5 to 5.5 V, -40 to +105 degC, RU-38, Tube; Generic Part Number: AD5348; Manufacturer: Analog Devices; PartNumber: AD5348BRU; # DAC Outputs: 8; Max V+: 5.5V; Op Pwr Diss: 8.3mW; Resolution (Bits): 12; Settling Time: 8µs; Single Supply: Yes; DatasheetVersion: Rev.0; PackageVersion: Mar-2003; PackageReference: RU-38; PackageDescription: 38-Lead Thin Shrink Small Outline Package [TSSOP]; Supplier 1: Digi-Key; Supplier Part Number 1: AD5348BRU-ND; Supplier 2: Mouser; Supplier Part Number 2: 584-AD5348BRU; Packing: Tube; RoHS: N; Mounting Technology: Surface Mount; Code_JEDEC: MS-153BD-1; ComponentLink1Description: Manufacturer URL; ComponentLink1URL: http://www.analog.com/en/index.html; ComponentLink2Description: Datasheet; ComponentLink2URL: http://www.analog.com/static/imported-files/data_sheets/AD5346_5347_5348.pdf; ComponentLink3Description: Package Specification; ComponentLink3URL: http://www.analog.com/static/imported-files/packages/36817415413609854197792024125RU38.pdf; ComponentLink4Description: Product URL; ComponentLink4URL: http://www.analog.com/en/digital-to-analog-converters/da-converters/ad5348/products/product.html
footprint RU-38_N (TSSOP, 38-Leads, Body 9.7x4.4mm, Pitch 0.5mm, IPC Medium Density)
footprint RU-38_L (TSSOP, 38-Leads, Body 9.7x4.4mm, Pitch 0.5mm, IPC High Density)
footprint RU-38_M (TSSOP, 38-Leads, Body 9.7x4.4mm, Pitch 0.5mm, IPC Low Density)
pins: 1 VREFGH (in) "Reference Input for DACs G and H.", 2 VREFEF (in) "Reference Input for DACs E and F.", 3 VREFCD (in) "Reference Input for DACs C and D.", 4 VDD (power) "Power Supply Pin(s). This part can operate from 2.5 V to 5.5 V, and the supply should be decoupled with a 10 uF capacitor in parallel with a 0.1 uF capacitor to GND. Both VDD pins on the LFCSP package must be at the same (See Datasheet)", 5 VREFAB (in) "Reference Input for DACs A and B.", 6 VOUTA (hiz) "Output of DAC A. Buffered output with rail-to-rail operation.", 7 VOUTB (hiz) "Output of DAC B. Buffered output with rail-to-rail operation.", 8 VOUTC (hiz) "Output of DAC C. Buffered output with rail-to-rail operation.", 9 VOUTD (hiz) "Output of DAC D. Buffered output with rail-to-rail operation.", 10 AGND (power) "Analog Ground. Ground reference for analog circuitry.", 11 VOUTE (hiz) "Output of DAC E. Buffered output with rail-to-rail operation.", 12 VOUTF (hiz) "Output of DAC F. Buffered output with rail-to-rail operation.", 13 VOUTG (hiz) "Output of DAC G. Buffered output with rail-to-rail operation.", 14 VOUTH (hiz) "Output of DAC H. Buffered output with rail-to-rail operation.", 15 DGND (power) "Digital Ground. Ground reference for digital circuitry.", 16 BUF (in) "Buffer Control Pin. Controls whether the reference input to the DAC is buffered or unbuffered.", 17 ~{LDAC} (in) "Active Low Control Input. Updates the DAC registers with the contents of the input registers, which allows all DAC outputs to be simultaneously updated.", 18 A0 (in) "LSB Address Pin. Selects which DAC is to be written to.", 19 A1 (in) "Address Pin. Selects which DAC is to be written to.", 20 A2 (in) "MSB Address Pin. Selects which DAC is to be written to.", 21 DB0 (in) "Twelve Parallel Data Input.", 22 DB1 (in) "Twelve Parallel Data Input.", 23 DB2 (in) "Twelve Parallel Data Input.", 24 DB3 (in) "Twelve Parallel Data Input.", 25 DB4 (in) "Twelve Parallel Data Input.", 26 DB5 (in) "Twelve Parallel Data Input.", 27 DB6 (in) "Twelve Parallel Data Input.", 28 DB7 (in) "Twelve Parallel Data Input.", 29 DB8 (in) "Twelve Parallel Data Input.", 30 DB9 (in) "Twelve Parallel Data Input.", 31 DB10 (in) "Twelve Parallel Data Input.", 32 DB11 (in) "Twelve Parallel Data Input. DB11 is the MSB of these 12 bits.", 33 ~{CS} (in) "Active Low Chip Select Input. Used in conjunction with W\R\ to write data to the parallel interface, or with R\D\ to read back data from a DAC.", 34 ~{RD} (in) "Active Low Read Input. Used in conjunction with C\S\ to read data back from the internal DACs.", 35 ~{WR} (in) "Active Low Write Input. Used in conjunction with C\S\ to write data to the parallel interface.", 36 GAIN (in) "Gain Control Pin. Controls whether the output range from the DAC is 0 V to VREF or 0 V to 2 x VREF.", 37 ~{CLR} (in) "Asynchronous Active Low Control Input. Clears all input registers and DAC registers to zeros.", 38 ~{PD} (in) "Power-Down Pin. This active low control pin puts all DACs into power-down mode."

## AD5348BRU-REEL
designator U?
Octal 12-Bit Voltage Output Digital-to-Analog Converter, 2.5 to 5.5 V, -40 to +105 degC, RU-38, Reel; Generic Part Number: AD5348; Manufacturer: Analog Devices; PartNumber: AD5348BRU-REEL; # DAC Outputs: 8; Max V+: 5.5V; Op Pwr Diss: 8.3mW; Resolution (Bits): 12; Settling Time: 8µs; Single Supply: Yes; DatasheetVersion: Rev.0; PackageVersion: Mar-2003; PackageReference: RU-38; PackageDescription: 38-Lead Thin Shrink Small Outline Package [TSSOP]; Supplier 1: Digi-Key; Supplier Part Number 1: AD5348BRU-REEL-ND; Supplier 2: Newark; Supplier Part Number 2: 59K4016; Supplier 3: Mouser; Supplier Part Number 3: 584-AD5348BRU-R; Packing: Reel; RoHS: N; Mounting Technology: Surface Mount; Code_JEDEC: MS-153BD-1; ComponentLink1Description: Manufacturer URL; ComponentLink1URL: http://www.analog.com/en/index.html; ComponentLink2Description: Datasheet; ComponentLink2URL: http://www.analog.com/static/imported-files/data_sheets/AD5346_5347_5348.pdf; ComponentLink3Description: Package Specification; ComponentLink3URL: http://www.analog.com/static/imported-files/packages/36817415413609854197792024125RU38.pdf; ComponentLink4Description: Product URL; ComponentLink4URL: http://www.analog.com/en/digital-to-analog-converters/da-converters/ad5348/products/product.html
footprint RU-38_N (TSSOP, 38-Leads, Body 9.7x4.4mm, Pitch 0.5mm, IPC Medium Density)
footprint RU-38_L (TSSOP, 38-Leads, Body 9.7x4.4mm, Pitch 0.5mm, IPC High Density)
footprint RU-38_M (TSSOP, 38-Leads, Body 9.7x4.4mm, Pitch 0.5mm, IPC Low Density)
pins: 1 VREFGH (in) "Reference Input for DACs G and H.", 2 VREFEF (in) "Reference Input for DACs E and F.", 3 VREFCD (in) "Reference Input for DACs C and D.", 4 VDD (power) "Power Supply Pin(s). This part can operate from 2.5 V to 5.5 V, and the supply should be decoupled with a 10 uF capacitor in parallel with a 0.1 uF capacitor to GND. Both VDD pins on the LFCSP package must be at the same (See Datasheet)", 5 VREFAB (in) "Reference Input for DACs A and B.", 6 VOUTA (hiz) "Output of DAC A. Buffered output with rail-to-rail operation.", 7 VOUTB (hiz) "Output of DAC B. Buffered output with rail-to-rail operation.", 8 VOUTC (hiz) "Output of DAC C. Buffered output with rail-to-rail operation.", 9 VOUTD (hiz) "Output of DAC D. Buffered output with rail-to-rail operation.", 10 AGND (power) "Analog Ground. Ground reference for analog circuitry.", 11 VOUTE (hiz) "Output of DAC E. Buffered output with rail-to-rail operation.", 12 VOUTF (hiz) "Output of DAC F. Buffered output with rail-to-rail operation.", 13 VOUTG (hiz) "Output of DAC G. Buffered output with rail-to-rail operation.", 14 VOUTH (hiz) "Output of DAC H. Buffered output with rail-to-rail operation.", 15 DGND (power) "Digital Ground. Ground reference for digital circuitry.", 16 BUF (in) "Buffer Control Pin. Controls whether the reference input to the DAC is buffered or unbuffered.", 17 ~{LDAC} (in) "Active Low Control Input. Updates the DAC registers with the contents of the input registers, which allows all DAC outputs to be simultaneously updated.", 18 A0 (in) "LSB Address Pin. Selects which DAC is to be written to.", 19 A1 (in) "Address Pin. Selects which DAC is to be written to.", 20 A2 (in) "MSB Address Pin. Selects which DAC is to be written to.", 21 DB0 (in) "Twelve Parallel Data Input.", 22 DB1 (in) "Twelve Parallel Data Input.", 23 DB2 (in) "Twelve Parallel Data Input.", 24 DB3 (in) "Twelve Parallel Data Input.", 25 DB4 (in) "Twelve Parallel Data Input.", 26 DB5 (in) "Twelve Parallel Data Input.", 27 DB6 (in) "Twelve Parallel Data Input.", 28 DB7 (in) "Twelve Parallel Data Input.", 29 DB8 (in) "Twelve Parallel Data Input.", 30 DB9 (in) "Twelve Parallel Data Input.", 31 DB10 (in) "Twelve Parallel Data Input.", 32 DB11 (in) "Twelve Parallel Data Input. DB11 is the MSB of these 12 bits.", 33 ~{CS} (in) "Active Low Chip Select Input. Used in conjunction with W\R\ to write data to the parallel interface, or with R\D\ to read back data from a DAC.", 34 ~{RD} (in) "Active Low Read Input. Used in conjunction with C\S\ to read data back from the internal DACs.", 35 ~{WR} (in) "Active Low Write Input. Used in conjunction with C\S\ to write data to the parallel interface.", 36 GAIN (in) "Gain Control Pin. Controls whether the output range from the DAC is 0 V to VREF or 0 V to 2 x VREF.", 37 ~{CLR} (in) "Asynchronous Active Low Control Input. Clears all input registers and DAC registers to zeros.", 38 ~{PD} (in) "Power-Down Pin. This active low control pin puts all DACs into power-down mode."

## AD5348BRU-REEL7
designator U?
Octal 12-Bit Voltage Output Digital-to-Analog Converter, 2.5 to 5.5 V, -40 to +105 degC, RU-38, Reel; Generic Part Number: AD5348; Manufacturer: Analog Devices; PartNumber: AD5348BRU-REEL7; # DAC Outputs: 8; Max V+: 5.5V; Op Pwr Diss: 8.3mW; Resolution (Bits): 12; Settling Time: 8µs; Single Supply: Yes; DatasheetVersion: Rev.0; PackageVersion: Mar-2003; PackageReference: RU-38; PackageDescription: 38-Lead Thin Shrink Small Outline Package [TSSOP]; Supplier 1: Digi-Key; Supplier Part Number 1: AD5348BRU-REEL7-ND; Supplier 2: Mouser; Supplier Part Number 2: 584-AD5348BRU-R7; Packing: Reel; RoHS: N; Mounting Technology: Surface Mount; Code_JEDEC: MS-153BD-1; ComponentLink1Description: Manufacturer URL; ComponentLink1URL: http://www.analog.com/en/index.html; ComponentLink2Description: Datasheet; ComponentLink2URL: http://www.analog.com/static/imported-files/data_sheets/AD5346_5347_5348.pdf; ComponentLink3Description: Package Specification; ComponentLink3URL: http://www.analog.com/static/imported-files/packages/36817415413609854197792024125RU38.pdf; ComponentLink4Description: Product URL; ComponentLink4URL: http://www.analog.com/en/digital-to-analog-converters/da-converters/ad5348/products/product.html
footprint RU-38_N (TSSOP, 38-Leads, Body 9.7x4.4mm, Pitch 0.5mm, IPC Medium Density)
footprint RU-38_L (TSSOP, 38-Leads, Body 9.7x4.4mm, Pitch 0.5mm, IPC High Density)
footprint RU-38_M (TSSOP, 38-Leads, Body 9.7x4.4mm, Pitch 0.5mm, IPC Low Density)
pins: 1 VREFGH (in) "Reference Input for DACs G and H.", 2 VREFEF (in) "Reference Input for DACs E and F.", 3 VREFCD (in) "Reference Input for DACs C and D.", 4 VDD (power) "Power Supply Pin(s). This part can operate from 2.5 V to 5.5 V, and the supply should be decoupled with a 10 uF capacitor in parallel with a 0.1 uF capacitor to GND. Both VDD pins on the LFCSP package must be at the same (See Datasheet)", 5 VREFAB (in) "Reference Input for DACs A and B.", 6 VOUTA (hiz) "Output of DAC A. Buffered output with rail-to-rail operation.", 7 VOUTB (hiz) "Output of DAC B. Buffered output with rail-to-rail operation.", 8 VOUTC (hiz) "Output of DAC C. Buffered output with rail-to-rail operation.", 9 VOUTD (hiz) "Output of DAC D. Buffered output with rail-to-rail operation.", 10 AGND (power) "Analog Ground. Ground reference for analog circuitry.", 11 VOUTE (hiz) "Output of DAC E. Buffered output with rail-to-rail operation.", 12 VOUTF (hiz) "Output of DAC F. Buffered output with rail-to-rail operation.", 13 VOUTG (hiz) "Output of DAC G. Buffered output with rail-to-rail operation.", 14 VOUTH (hiz) "Output of DAC H. Buffered output with rail-to-rail operation.", 15 DGND (power) "Digital Ground. Ground reference for digital circuitry.", 16 BUF (in) "Buffer Control Pin. Controls whether the reference input to the DAC is buffered or unbuffered.", 17 ~{LDAC} (in) "Active Low Control Input. Updates the DAC registers with the contents of the input registers, which allows all DAC outputs to be simultaneously updated.", 18 A0 (in) "LSB Address Pin. Selects which DAC is to be written to.", 19 A1 (in) "Address Pin. Selects which DAC is to be written to.", 20 A2 (in) "MSB Address Pin. Selects which DAC is to be written to.", 21 DB0 (in) "Twelve Parallel Data Input.", 22 DB1 (in) "Twelve Parallel Data Input.", 23 DB2 (in) "Twelve Parallel Data Input.", 24 DB3 (in) "Twelve Parallel Data Input.", 25 DB4 (in) "Twelve Parallel Data Input.", 26 DB5 (in) "Twelve Parallel Data Input.", 27 DB6 (in) "Twelve Parallel Data Input.", 28 DB7 (in) "Twelve Parallel Data Input.", 29 DB8 (in) "Twelve Parallel Data Input.", 30 DB9 (in) "Twelve Parallel Data Input.", 31 DB10 (in) "Twelve Parallel Data Input.", 32 DB11 (in) "Twelve Parallel Data Input. DB11 is the MSB of these 12 bits.", 33 ~{CS} (in) "Active Low Chip Select Input. Used in conjunction with W\R\ to write data to the parallel interface, or with R\D\ to read back data from a DAC.", 34 ~{RD} (in) "Active Low Read Input. Used in conjunction with C\S\ to read data back from the internal DACs.", 35 ~{WR} (in) "Active Low Write Input. Used in conjunction with C\S\ to write data to the parallel interface.", 36 GAIN (in) "Gain Control Pin. Controls whether the output range from the DAC is 0 V to VREF or 0 V to 2 x VREF.", 37 ~{CLR} (in) "Asynchronous Active Low Control Input. Clears all input registers and DAC registers to zeros.", 38 ~{PD} (in) "Power-Down Pin. This active low control pin puts all DACs into power-down mode."